# EAGLE library part DS1302 (library parts)
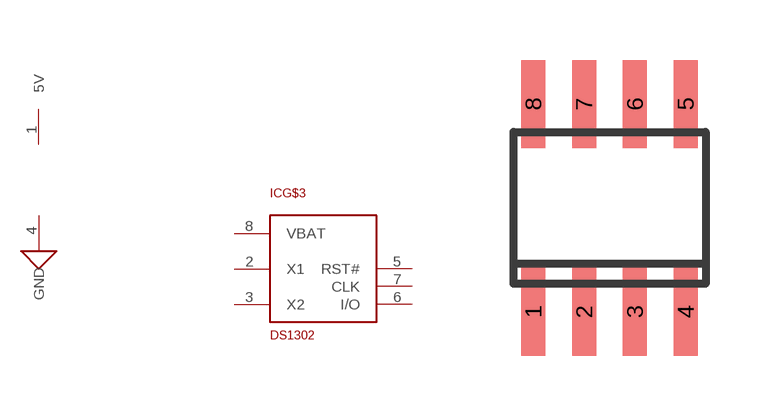
[diagram p1: symbol with the pads of SO08; footprint SO08]

Designator prefix IC; gates G$1=5V G$2=GND G$3=RTC

## DS1302  [SO08]
1  G$1:5V  pwr
2  G$3:X1  pas
3  G$3:X2  pas
4  G$2:GND  pwr
5  G$3:RST#  in
6  G$3:I/O
7  G$3:CLK  in
8  G$3:VBAT  pas

## Footprint SO08 (pad centres in mm)
SMALL OUTLINE INTEGRATED CIRCUIT body 3.9 mm/JEDEC MS-012AA
smd 0.6 x 2.2: 1 -1.905,-2.6; 2 -0.635,-2.6; 3 0.635,-2.6; 4 1.905,-2.6; 5 1.905,2.6; 6 0.635,2.6; 7 -0.635,2.6; 8 -1.905,2.6